# Altium schematic symbol library IC_ADC_DAC.SchLib: 1 symbol
Pins are listed as number, name and electrical type; pins without a type are passive.

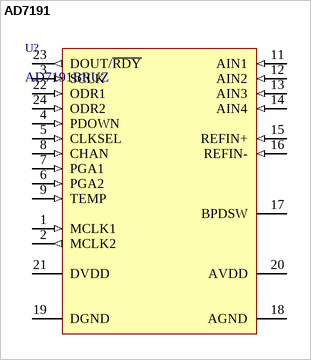
[diagram p0: symbol AD7191]

## AD7191
designator U?, comment AD7191BRUZ
Ultralow Noise, 24-Bit, / Sigma-Delta ADC for Bridge Sensors; Name: AD7191BRUZ; HelpURL: https://www.analog.com/media/en/technical-documentation/data-sheets/AD7191.pdf; Supplier: https://www.electronshik.ru/item/AD/AD7191BRUZ; BOMString: AD7191BRUZ
footprint TSSOP-24-0.65 (TSOP, 24-Leads, Body 7,80x4,40mm, Pitch 0,65mm, IPC Medium Density)
pins: 1 MCLK1 (in), 2 MCLK2 (out), 3 SCLK (in), 4 PDOWN (in), 5 CLKSEL (in), 6 PGA2 (in), 7 PGA1 (in), 8 CHAN (in), 9 TEMP (in), 11 AIN1 (in), 12 AIN2 (in), 13 AIN3 (in), 14 AIN4 (in), 15 REFIN+ (in), 16 REFIN- (in), 17 BPDSW, 18 AGND, 19 DGND, 20 AVDD, 21 DVDD, 22 ODR1 (in), 23 DOUT/~{RDY} (out), 24 ODR2 (in)